# EAGLE library part BQ24610_RGE_24 (library Deegou_IC)
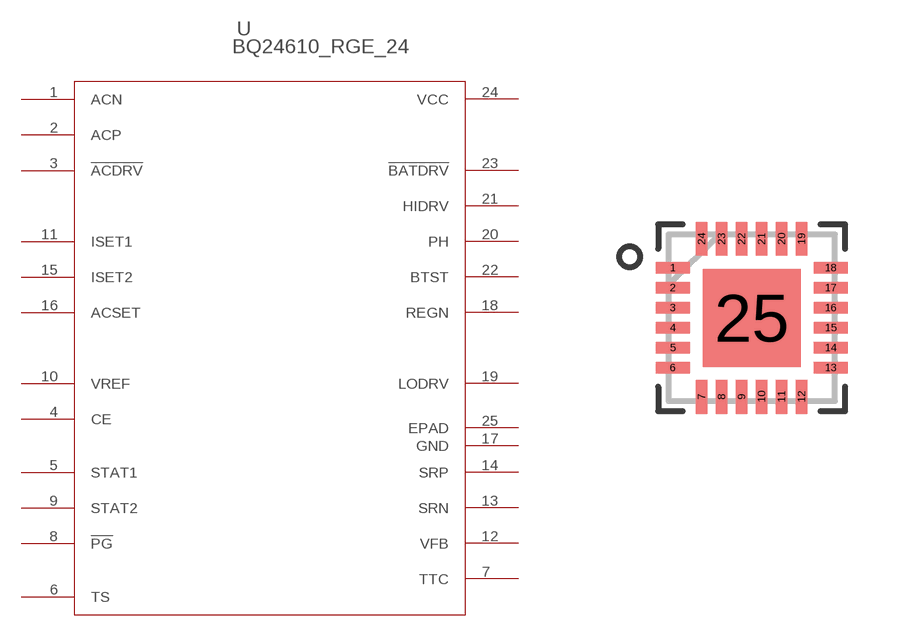
[diagram p82: symbol with the pads of RGE24_2P45X2P45; footprint RGE24_2P45X2P45]

Designator prefix U

## BQ24610_RGE_24 (DATASHEETURL: httpwww.ti.comlitgpnBQ24610; FAMILY_NAME: BATTERY CHARGE MANAGEMENT; GENERIC_PART_NUMBER: BQ24610; INDUSTRY_STD_PKG_TYPE: VQFN; MANUFACTURER: Texas Instruments; PACKAGE_DESIGNATOR: RGE; PIN_COUNT: 24)  [RGE24_2P45X2P45]
1  ACN  in
2  ACP  in
3  !ACDRV  in
4  CE  in
5  STAT1  in
6  TS  in
7  TTC  out
8  !PG  in
9  STAT2  in
10  VREF  in
11  ISET1  in
12  VFB  out
13  SRN  out
14  SRP  out
15  ISET2  in
16  ACSET  in
17  GND  pwr
18  REGN  out
19  LODRV  out
20  PH  out
21  HIDRV  out
22  BTST  out
23  !BATDRV  out
24  VCC  pwr
25  EPAD  pwr

## Footprint RGE24_2P45X2P45 (pad centres in mm)
smd 0.85 x 0.28: 1 -1.975,1.25; 2 -1.975,0.75; 3 -1.975,0.25; 4 -1.975,-0.25; 5 -1.975,-0.75; 6 -1.975,-1.25; 13 1.975,-1.25; 14 1.975,-0.75; 15 1.975,-0.25; 16 1.975,0.25; 17 1.975,0.75; 18 1.975,1.25
smd 0.28 x 0.85: 7 -1.25,-1.975; 8 -0.75,-1.975; 9 -0.25,-1.975; 10 0.25,-1.975; 11 0.75,-1.975; 12 1.25,-1.975; 19 1.25,1.975; 20 0.75,1.975; 21 0.25,1.975; 22 -0.25,1.975; 23 -0.75,1.975; 24 -1.25,1.975
smd 2.45 x 2.45: 25 0,0